# Altium schematic symbol library BMD-330-A-R.SchLib: 1 symbol
Pins are listed as number, name and electrical type; pins without a type are passive.

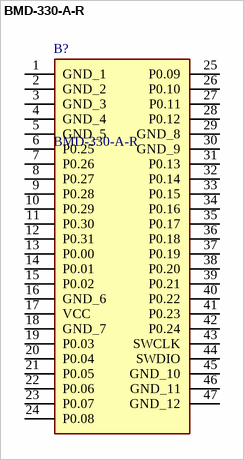
[diagram p0: symbol BMD-330-A-R]

## BMD-330-A-R
designator B?
MOD BLE 5.0 NORDIC NRF52810 SOC; Manufacturer_Name: u-blox; Geometry.Height: 2mm; Mouser Part Number: 377-BMD-330-A-R; Mouser Price/Stock: https://www.mouser.co.uk/ProductDetail/u-blox/BMD-330-A-R?qs=wd5RIQLrsJi3NeBKYgZ5TQ%3D%3D; Manufacturer_Part_Number: BMD-330-A-R; Datasheet Link: https://www.u-blox.com/sites/default/files/BMD-330_DataSheet_%28UBX-19033352%29.pdf
footprint BMD330AR
pins: 1 GND_1, 2 GND_2, 3 GND_3, 4 GND_4, 5 GND_5, 6 P0.25, 7 P0.26, 8 P0.27, 9 P0.28, 10 P0.29, 11 P0.30, 12 P0.31, 13 P0.00, 14 P0.01, 15 P0.02, 16 GND_6, 17 VCC, 18 GND_7, 19 P0.03, 20 P0.04, 21 P0.05, 22 P0.06, 23 P0.07, 24 P0.08, 25 P0.09, 26 P0.10, 27 P0.11, 28 P0.12, 29 GND_8, 30 GND_9, 31 P0.13, 32 P0.14, 33 P0.15, 34 P0.16, 35 P0.17, 36 P0.18, 37 P0.19, 38 P0.20, 39 P0.21, 40 P0.22, 41 P0.23, 42 P0.24, 43 SWCLK, 44 SWDIO, 45 GND_10, 46 GND_11, 47 GND_12